# EAGLE library part PINHEAD_1.27_2X5 (library stock_components)
Mouser: 855-M50-3610542
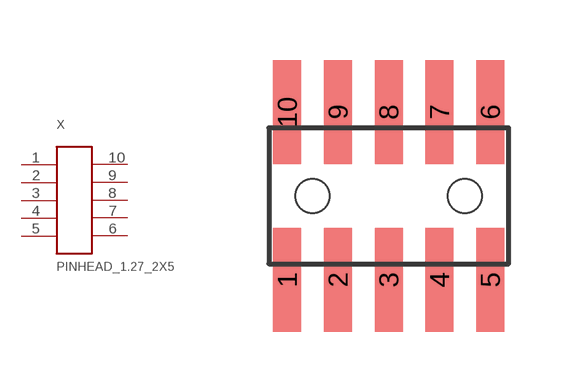
[diagram p5: symbol with the pads of PINHEAD_2X5; footprint PINHEAD_2X5]

Designator prefix X

## PINHEAD_1.27_2X5  [PINHEAD_2X5]
1  P1
2  P2
3  P3
4  P4
5  P5
6  P6
7  P7
8  P8
9  P9
10  P10

## Footprint PINHEAD_2X5 (pad centres in mm)
Datasheet: https://www.mouser.ch/datasheet/2/181/M50-361-888037.pdf
smd 0.7 x 2.6: 1 -2.54,-2.1; 2 -1.27,-2.1; 3 0,-2.1; 4 1.27,-2.1; 5 2.54,-2.1; 6 2.54,2.1; 7 1.27,2.1; 8 0,2.1; 9 -1.27,2.1; 10 -2.54,2.1
hole 0.85 at 1.905,0
hole 0.85 at -1.905,0